# Altium schematic symbol library V1FM10-M3_H.SchLib: 1 symbol
Pins are listed as number, name and electrical type; pins without a type are passive.

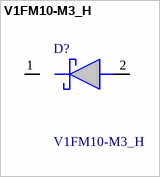
[diagram p0: symbol V1FM10-M3_H]

## V1FM10-M3_H
designator D?
Schottky Diodes & Rectifiers 100V 1A SMF(DO-219AB); Manufacturer_Name: Vishay; Manufacturer_Part_Number: V1FM10-M3/H; Geometry.Height: 1.08mm; Mouser Part Number: 78-V1FM10-M3/H; Mouser Price/Stock: https://www.mouser.co.uk/ProductDetail/Vishay-General-Semiconductor/V1FM10-M3-H?qs=F5EMLAvA7ICTFn%2Fm9xQ31w%3D%3D; Arrow Part Number: V1FM10-M3/H; Arrow Price/Stock: https://www.arrow.com/en/products/v1fm10-m3h/vishay?utm_currency=USD&region=nac; Datasheet Link: https://componentsearchengine.com/Datasheets/1/V1FM10-M3_H.pdf
footprint SODFL3718X108N
pins: 1 K, 2 A